# Altium footprint library 452006250-3#NIBP涡轮驱动板V2.001.PcbLib: 80 footprints (part 1 of 5)
Each footprint in its own frame and in the unit in brackets; x right, y up, seen from the top. Pads: shape width x height; smd on the part's side, far side on the other; paste and mask are expansions set on the pad; w line width, h text height; cw(c..) or ccw(c..) is an arc to the next point about the centre after c.
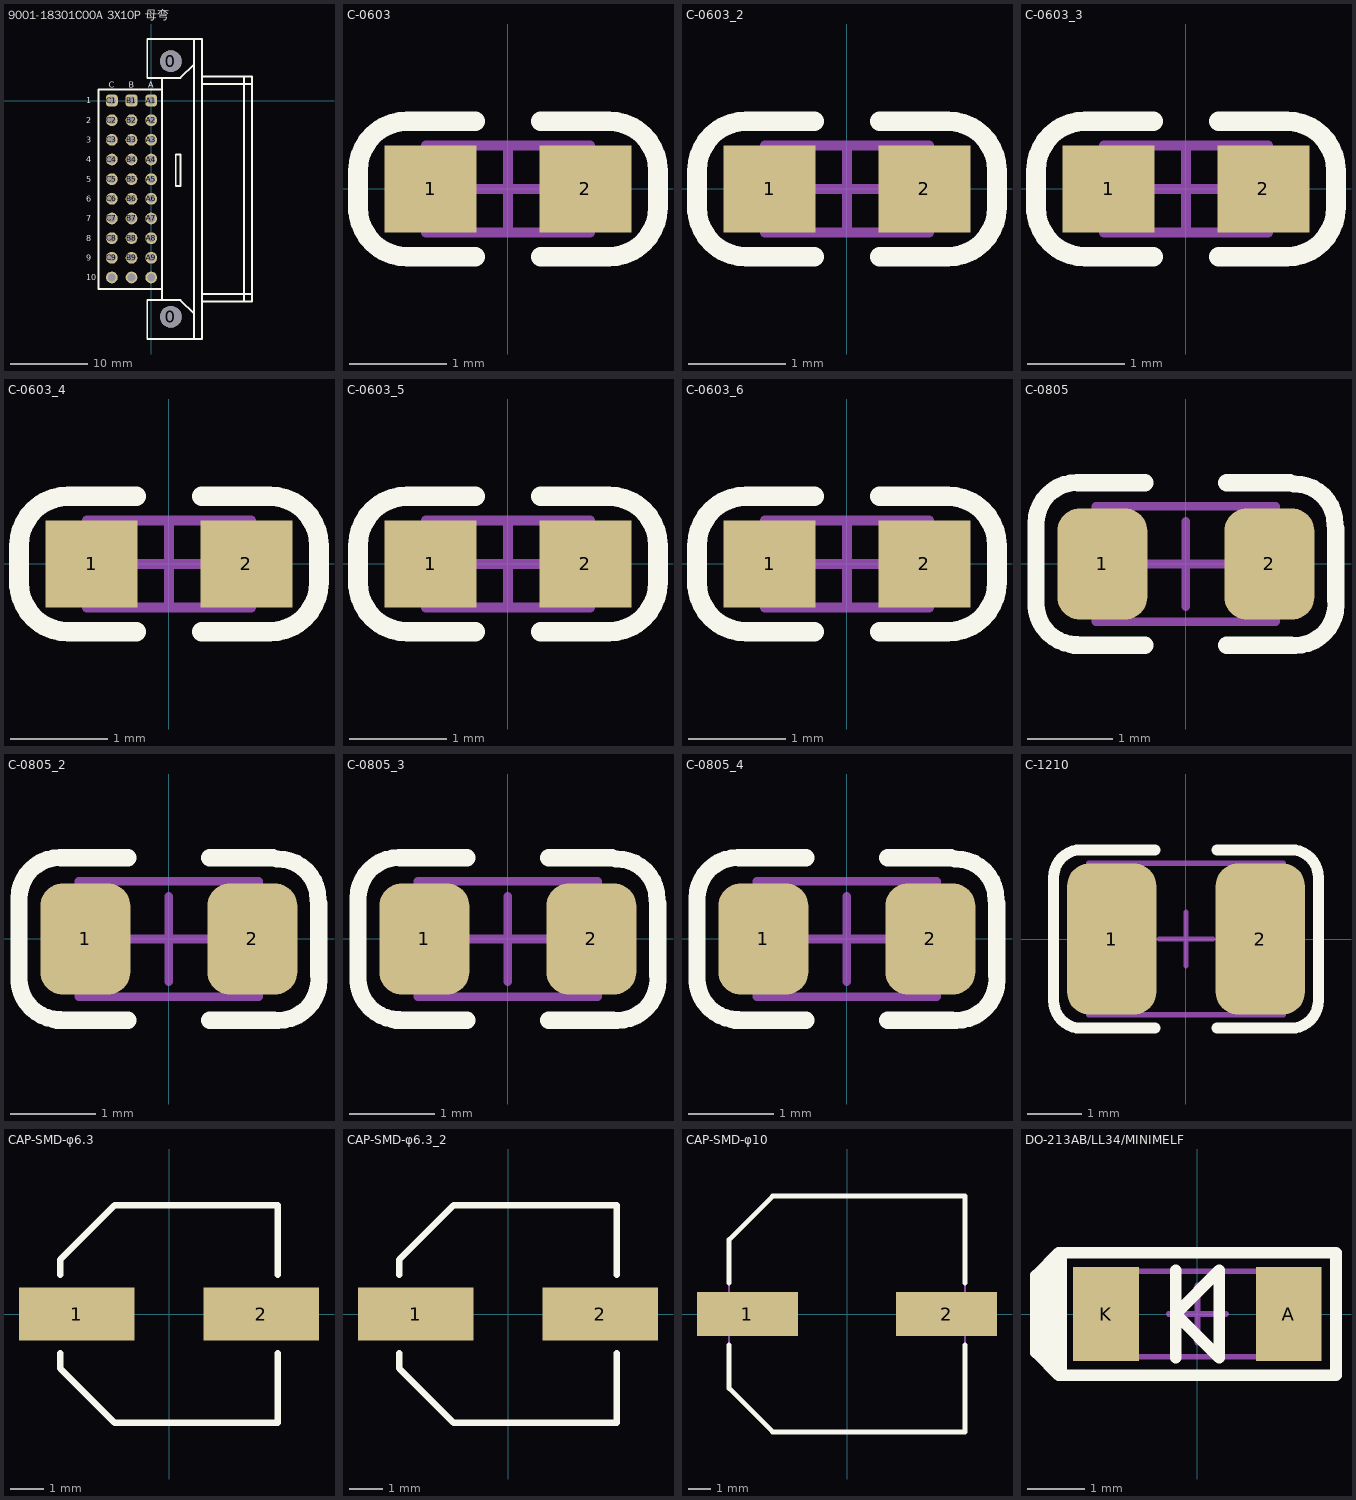
[diagram p0: the footprints below, top view; thin cyan lines are the x and y axes]

## 9001-18301C00A 3X10P 母弯 [mil]
pads (32):
  round 110.24 hole 110.24 unplated: 0(100,-1100) 0(100,200)
  rrect50% 60x60 hole 39.37: A1(0,0) B1(-100,0) C1(-200,0)
  round 60 hole 39.37: A2(0,-100) A3(0,-200) A4(0,-300) A5(0,-400) A6(0,-500) A7(0,-600) A8(0,-700) A9(0,-800) A10(0,-900) B2(-100,-100) B3(-100,-200) B4(-100,-300) B5(-100,-400) B6(-100,-500) B7(-100,-600) B8(-100,-700) B9(-100,-800) B10(-100,-900) C2(-200,-100) C3(-200,-200) C4(-200,-300) C5(-200,-400) C6(-200,-500) C7(-200,-600) C8(-200,-700) C9(-200,-800) C10(-200,-900)
Top Overlay:
  lines w10: -269,55 -269,-959 55,-959 ; -269,56 55,56 ; 55,-1012.07 55,115 ; 218.11,-1212.99 218.11,312.99 ; 218.39,-1084.72 148.66,-1015 -20,-1015 -20,-1212.99 257.48,-1212.99 257.48,312.99 -20,312.99 -20,115 148.66,115 218.39,184.72 ; 257.48,-1023.23 511.81,-1023.23 511.81,123.23 257.48,123.23 ; 257.48,-983.86 511.81,-983.86 ; 257.48,83.86 511.81,83.86 ; 471.26,-1023.36 471.26,123.23 ; 125,-435 125,-275 150,-275 150,-435 125,-435
  text "10" at -330.63,-915 h30
  text "8" at -330.63,-715 h30
  text "9" at -330.63,-815 h30
  text "6" at -330.63,-515 h30
  text "7" at -330.63,-615 h30
  text "4" at -330.63,-315 h30
  text "5" at -330.63,-415 h30
  text "2" at -330.63,-115 h30
  text "3" at -330.63,-215 h30
  text "1" at -330.63,-15 h30
  text "A" at -15,66 h30
  text "B" at -115,66 h30
  text "C" at -215,66 h30
3D body "9001-C18301C00A.STEP": height 373.62, standoff -112.6, extent -205.51,-1212.99 501.97,312.99

## C-0603 [mm] "Chip Capacitor, 2-Leads, Body 1.60x0.80mm, IPC Medium Density"
height 0.5
pads (2):
  rect 0.95x0.9 smd: 1(-0.8,0) 2(0.8,0)
Top Overlay:
  lines w0.203: -1.55,-0.233 -1.55,0.192 cw(c-1.042,0.192) -1.042,0.7 -0.339,0.7 ; -1.55,-0.192 ccw(c-1.042,-0.192) -1.042,-0.7 -0.339,-0.7 ; 0.339,-0.7 1.042,-0.7 ccw(c1.042,-0.192) 1.55,-0.192 1.55,0.192 ccw(c1.042,0.192) 1.042,0.7 0.339,0.7
Mechanical 13:
  lines w0.1: -0.85,-0.45 -0.85,0.45 0.85,0.45 0.85,-0.45 -0.85,-0.45
Mechanical 15:
  lines w0.1: -0.45,0 0.45,0 ; 0,-0.45 0,0.45
3D body: height 0.5, standoff 0, extent -0.55,-0.45 0.55,0.45
3D body: height 0.5, standoff 0, extent -0.85,-0.45 -0.55,0.45
3D body: height 0.5, standoff 0, extent 0.55,-0.45 0.85,0.45

## C-0603_2 [mm]
pads (2):
  rect 0.95x0.9 smd: 1(-0.8,0) 2(0.8,0)
Top Overlay:
  lines w0.203: -1.55,-0.233 -1.55,0.192 cw(c-1.042,0.192) -1.042,0.7 -0.339,0.7 ; -1.55,-0.192 ccw(c-1.042,-0.192) -1.042,-0.7 -0.339,-0.7 ; 0.339,-0.7 1.042,-0.7 ccw(c1.042,-0.192) 1.55,-0.192 1.55,0.192 ccw(c1.042,0.192) 1.042,0.7 0.339,0.7
Mechanical 13:
  lines w0.1: -0.85,-0.45 0.85,-0.45 0.85,0.45 -0.85,0.45 -0.85,-0.45
Mechanical 15:
  lines w0.1: -0.45,0 0.45,0 ; 0,-0.45 0,0.45
3D body: height 0.5, standoff 0, extent 0.55,-0.45 0.85,0.45
3D body: height 0.5, standoff 0, extent -0.85,-0.45 -0.55,0.45
3D body: height 0.5, standoff 0, extent -0.55,-0.45 0.55,0.45

## C-0603_3 [mm]
pads (2):
  rect 0.95x0.9 smd: 1(-0.8,0) 2(0.8,0)
Top Overlay:
  lines w0.203: -1.55,-0.233 -1.55,0.192 cw(c-1.042,0.192) -1.042,0.7 -0.339,0.7 ; -1.55,-0.192 ccw(c-1.042,-0.192) -1.042,-0.7 -0.339,-0.7 ; 0.339,-0.7 1.042,-0.7 ccw(c1.042,-0.192) 1.55,-0.192 1.55,0.192 ccw(c1.042,0.192) 1.042,0.7 0.339,0.7
Mechanical 13:
  lines w0.1: -0.85,-0.45 0.85,-0.45 0.85,0.45 -0.85,0.45 -0.85,-0.45
Mechanical 15:
  lines w0.1: -0.45,0 0.45,0 ; 0,-0.45 0,0.45
3D body: height 0.5, standoff 0, extent 0.55,-0.45 0.85,0.45
3D body: height 0.5, standoff 0, extent -0.85,-0.45 -0.55,0.45
3D body: height 0.5, standoff 0, extent -0.55,-0.45 0.55,0.45

## C-0603_4 [mm]
pads (2):
  rect 0.95x0.9 smd: 1(-0.8,0) 2(0.8,0)
Top Overlay:
  lines w0.203: -1.55,-0.233 -1.55,0.192 cw(c-1.042,0.192) -1.042,0.7 -0.339,0.7 ; -1.55,-0.192 ccw(c-1.042,-0.192) -1.042,-0.7 -0.339,-0.7 ; 0.339,-0.7 1.042,-0.7 ccw(c1.042,-0.192) 1.55,-0.192 1.55,0.192 ccw(c1.042,0.192) 1.042,0.7 0.339,0.7
Mechanical 13:
  lines w0.1: -0.85,-0.45 -0.85,0.45 0.85,0.45 0.85,-0.45 -0.85,-0.45
Mechanical 15:
  lines w0.1: -0.45,0 0.45,0 ; 0,-0.45 0,0.45
3D body: height 0.5, standoff 0, extent -0.55,-0.45 0.55,0.45
3D body: height 0.5, standoff 0, extent -0.85,-0.45 -0.55,0.45
3D body: height 0.5, standoff 0, extent 0.55,-0.45 0.85,0.45

## C-0603_5 [mm]
pads (2):
  rect 0.95x0.9 smd: 1(-0.8,0) 2(0.8,0)
Top Overlay:
  lines w0.203: -1.55,-0.233 -1.55,0.192 cw(c-1.042,0.192) -1.042,0.7 -0.339,0.7 ; -1.55,-0.192 ccw(c-1.042,-0.192) -1.042,-0.7 -0.339,-0.7 ; 0.339,-0.7 1.042,-0.7 ccw(c1.042,-0.192) 1.55,-0.192 1.55,0.192 ccw(c1.042,0.192) 1.042,0.7 0.339,0.7
Mechanical 13:
  lines w0.1: -0.85,-0.45 0.85,-0.45 0.85,0.45 -0.85,0.45 -0.85,-0.45
Mechanical 15:
  lines w0.1: -0.45,0 0.45,0 ; 0,-0.45 0,0.45
3D body: height 0.5, standoff 0, extent 0.55,-0.45 0.85,0.45
3D body: height 0.5, standoff 0, extent -0.85,-0.45 -0.55,0.45
3D body: height 0.5, standoff 0, extent -0.55,-0.45 0.55,0.45

## C-0603_6 [mm]
pads (2):
  rect 0.95x0.9 smd: 1(-0.8,0) 2(0.8,0)
Top Overlay:
  lines w0.203: -1.55,-0.233 -1.55,0.192 cw(c-1.042,0.192) -1.042,0.7 -0.339,0.7 ; -1.55,-0.192 ccw(c-1.042,-0.192) -1.042,-0.7 -0.339,-0.7 ; 0.339,-0.7 1.042,-0.7 ccw(c1.042,-0.192) 1.55,-0.192 1.55,0.192 ccw(c1.042,0.192) 1.042,0.7 0.339,0.7
Mechanical 13:
  lines w0.1: -0.85,-0.45 -0.85,0.45 0.85,0.45 0.85,-0.45 -0.85,-0.45
Mechanical 15:
  lines w0.1: -0.45,0 0.45,0 ; 0,-0.45 0,0.45
3D body: height 0.5, standoff 0, extent -0.55,-0.45 0.55,0.45
3D body: height 0.5, standoff 0, extent -0.85,-0.45 -0.55,0.45
3D body: height 0.5, standoff 0, extent 0.55,-0.45 0.85,0.45

## C-0805 [mm] "Chip Capacitor, 2-Leads, Body 2.00x1.25mm, IPC Medium Density"
height 1.25
pads (2):
  rrect50% 1.05x1.3 smd: 1(-0.975,0) 2(0.975,0)
Top Overlay:
  lines w0.2: -1.75,0.473 cw(c-1.273,0.473) -1.273,0.95 ; -1.749,-0.466 ccw(c-1.272,-0.466) -1.272,-0.943 ; 1.266,0.936 cw(c1.266,0.459) 1.743,0.459 ; 1.276,-0.95 ccw(c1.276,-0.473) 1.753,-0.473
  lines w0.203: -1.75,-0.507 -1.75,0.455 ; -1.307,-0.95 -0.477,-0.95 ; -1.255,0.95 -0.477,0.95 ; 0.477,-0.95 1.226,-0.95 ; 0.477,0.95 1.214,0.95 ; 1.75,-0.426 1.75,0.414
Mechanical 13:
  lines w0.1: -1.05,-0.675 1.05,-0.675 1.05,0.675 -1.05,0.675 -1.05,-0.675
Mechanical 15:
  lines w0.1: -0.5,0 0.5,0 ; 0,-0.5 0,0.5
3D body: height 0.5, standoff 0, extent 0.7,-0.675 1.05,0.675
3D body: height 0.5, standoff 0, extent -1.05,-0.675 -0.7,0.675
3D body: height 0.5, standoff 0, extent -0.7,-0.675 0.7,0.675

## C-0805_2 [mm]
pads (2):
  rrect50% 1.05x1.3 smd: 1(-0.975,0) 2(0.975,0)
Top Overlay:
  lines w0.2: -1.75,0.473 cw(c-1.273,0.473) -1.273,0.95 ; -1.749,-0.466 ccw(c-1.272,-0.466) -1.272,-0.943 ; 1.266,0.936 cw(c1.266,0.459) 1.743,0.459 ; 1.276,-0.95 ccw(c1.276,-0.473) 1.753,-0.473
  lines w0.203: -1.75,-0.507 -1.75,0.455 ; -1.307,-0.95 -0.477,-0.95 ; -1.255,0.95 -0.477,0.95 ; 0.477,-0.95 1.226,-0.95 ; 0.477,0.95 1.214,0.95 ; 1.75,-0.426 1.75,0.414
Mechanical 13:
  lines w0.1: -1.05,-0.675 1.05,-0.675 1.05,0.675 -1.05,0.675 -1.05,-0.675
Mechanical 15:
  lines w0.1: -0.5,0 0.5,0 ; 0,-0.5 0,0.5
3D body: height 0.5, standoff 0, extent 0.7,-0.675 1.05,0.675
3D body: height 0.5, standoff 0, extent -1.05,-0.675 -0.7,0.675
3D body: height 0.5, standoff 0, extent -0.7,-0.675 0.7,0.675

## C-0805_3 [mm]
pads (2):
  rrect50% 1.05x1.3 smd: 1(-0.975,0) 2(0.975,0)
Top Overlay:
  lines w0.2: -1.75,0.473 cw(c-1.273,0.473) -1.273,0.95 ; -1.749,-0.466 ccw(c-1.272,-0.466) -1.272,-0.943 ; 1.266,0.936 cw(c1.266,0.459) 1.743,0.459 ; 1.276,-0.95 ccw(c1.276,-0.473) 1.753,-0.473
  lines w0.203: -1.75,-0.507 -1.75,0.455 ; -1.307,-0.95 -0.477,-0.95 ; -1.255,0.95 -0.477,0.95 ; 0.477,-0.95 1.226,-0.95 ; 0.477,0.95 1.214,0.95 ; 1.75,-0.426 1.75,0.414
Mechanical 13:
  lines w0.1: -1.05,-0.675 1.05,-0.675 1.05,0.675 -1.05,0.675 -1.05,-0.675
Mechanical 15:
  lines w0.1: -0.5,0 0.5,0 ; 0,-0.5 0,0.5
3D body: height 0.5, standoff 0, extent 0.7,-0.675 1.05,0.675
3D body: height 0.5, standoff 0, extent -1.05,-0.675 -0.7,0.675
3D body: height 0.5, standoff 0, extent -0.7,-0.675 0.7,0.675

## C-0805_4 [mm]
pads (2):
  rrect50% 1.05x1.3 smd: 1(-0.975,0) 2(0.975,0)
Top Overlay:
  lines w0.2: -1.75,0.473 cw(c-1.273,0.473) -1.273,0.95 ; -1.749,-0.466 ccw(c-1.272,-0.466) -1.272,-0.943 ; 1.266,0.936 cw(c1.266,0.459) 1.743,0.459 ; 1.276,-0.95 ccw(c1.276,-0.473) 1.753,-0.473
  lines w0.203: -1.75,-0.507 -1.75,0.455 ; -1.307,-0.95 -0.477,-0.95 ; -1.255,0.95 -0.477,0.95 ; 0.477,-0.95 1.226,-0.95 ; 0.477,0.95 1.214,0.95 ; 1.75,-0.426 1.75,0.414
Mechanical 13:
  lines w0.1: -1.05,-0.675 -1.05,0.675 1.05,0.675 1.05,-0.675 -1.05,-0.675
Mechanical 15:
  lines w0.1: -0.5,0 0.5,0 ; 0,-0.5 0,0.5
3D body: height 0.5, standoff 0, extent -0.7,-0.675 0.7,0.675
3D body: height 0.5, standoff 0, extent -1.05,-0.675 -0.7,0.675
3D body: height 0.5, standoff 0, extent 0.7,-0.675 1.05,0.675

## C-1210 [mm] "Chip Capacitor, 2-Leads, Body 3.20x2.50mm, IPC Medium Density"
height 2
pads (2):
  rrect50% 1.65x2.8 smd: 1(-1.375,0) 2(1.375,0)
Top Overlay:
  lines w0.203: -0.572,-1.65 -1.942,-1.65 cw(c-1.942,-1.142) -2.45,-1.142 -2.45,1.142 cw(c-1.942,1.142) -1.942,1.65 -0.572,1.65 ; 0.572,-1.65 1.942,-1.65 ccw(c1.942,-1.142) 2.45,-1.142 2.45,1.142 ccw(c1.942,1.142) 1.942,1.65 0.572,1.65
Mechanical 13:
  lines w0.1: -1.8,-1.4 1.8,-1.4 1.8,1.4 -1.8,1.4 -1.8,-1.4
Mechanical 15:
  lines w0.1: -0.5,0 0.5,0 ; 0,-0.5 0,0.5
3D body: height 2, standoff 0, extent 1.2,-1.4 1.8,1.4
3D body: height 2, standoff 0, extent -1.8,-1.4 -1.2,1.4
3D body: height 2, standoff 0, extent -1.2,-1.4 1.2,1.4

## CAP-SMD-φ6.3 [mm] "SANYO,SVP SERIES ELECTROLYTIC CAPACITORS"
pads (2):
  rect 3.5x1.6 smd: 1(-2.8,0) 2(2.8,0)
Top Overlay:
  lines w0.203: -3.3,-1.2 -3.3,-1.65 -1.65,-3.3 3.3,-3.3 3.3,-1.2 ; -3.3,1.2 -3.3,1.65 -1.65,3.3 3.3,3.3 3.3,1.2
Mechanical 13:
  text "+" at -2.946,1.092 h1.02
3D body "EEE-HZA1V470P.stp": height 6.1, standoff 0, extent -3.9,-3.4 3.9,3.4

## CAP-SMD-φ6.3_2 [mm]
pads (2):
  rect 3.5x1.6 smd: 1(-2.8,0) 2(2.8,0)
Top Overlay:
  lines w0.203: -3.3,-1.2 -3.3,-1.65 -1.65,-3.3 3.3,-3.3 3.3,-1.2 ; -3.3,1.2 -3.3,1.65 -1.65,3.3 3.3,3.3 3.3,1.2
Mechanical 13:
  text "+" at -2.946,1.092 h1.02
3D body "EEE-HZA1V470P.stp": height 6.1, standoff 0, extent -3.9,-3.4 3.9,3.4

## CAP-SMD-φ10 [mm] "SANYO,SVP SERIES ELECTROLYTIC CAPACITORS"
pads (2):
  rect 4.4x1.9 smd: 1(-4.35,0) 2(4.35,0)
Top Overlay:
  lines w0.203: -5.15,-1.35 -5.15,-3.25 -3.25,-5.15 5.15,-5.15 5.15,-1.35 ; -5.15,1.35 -5.15,3.25 -3.25,5.15 5.15,5.15 5.15,1.35
Mechanical 13:
  lines w0.1: -5.15,-3.25 -5.15,3.25 -3.25,5.15 5.15,5.15 5.15,-5.15 -3.25,-5.15 -5.15,-3.25
  text "+" at -4.521,1.245 h1.02
3D body "G12.stp": height 12.52, standoff 0.02, extent -5.5,-5.15 5.5,5.15

## DO-213AB/LL34/MINIMELF [mm] "MELF Diode, 2-Leads, Body 3.40x1.45mm, IPC Medium Density"
height 1.5
pads (2):
  rect 1.15x1.65 smd: A(1.6,0) K(-1.6,0)
Top Overlay:
  region: -2.385,1.075 -2.785,0.675 -2.825,0.675 -2.825,-0.675 -2.425,-1.075 -2.385,-1.075
  lines w0.203: -0.38,-0.765 -0.38,0.765 ; -2.385,-1.075 -2.385,1.075 ; -2.385,-1.075 2.425,-1.075 2.425,1.075 -2.385,1.075 ; -2.385,-1.075 -2.425,-1.075 -2.825,-0.675 -2.825,0.675 -2.425,1.075 -2.385,1.075 ; -0.38,0 0.38,0.765 0.38,-0.765 -0.38,0
Mechanical 13:
  rectangle: -1.755,-0.75 -1.255,0.747
  lines w0.1: -1.755,-0.75 -1.755,0.75 1.755,0.75 1.755,-0.75 -1.755,-0.75
Mechanical 15:
  lines w0.1: -0.5,0 0.5,0 ; 0,-0.5 0,0.5
3D body: height 1.5, standoff 0, extent -1.755,-0.751 -1.255,0.749
3D body: height 1.49, standoff 0.04, extent -0.655,-0.722 -0.055,0.72
3D body: height 1.49, standoff 0.04, extent -1.255,-0.721 1.255,0.719
3D body: height 1.5, standoff 0, extent 1.255,-0.751 1.755,0.749